# Altium footprint library PowerMOSFET.PcbLib: 5 footprints
Each footprint in its own frame and in the unit in brackets; x right, y up, seen from the top. Pads: shape width x height; smd on the part's side, far side on the other; paste and mask are expansions set on the pad; w line width, h text height; cw(c..) or ccw(c..) is an arc to the next point about the centre after c.
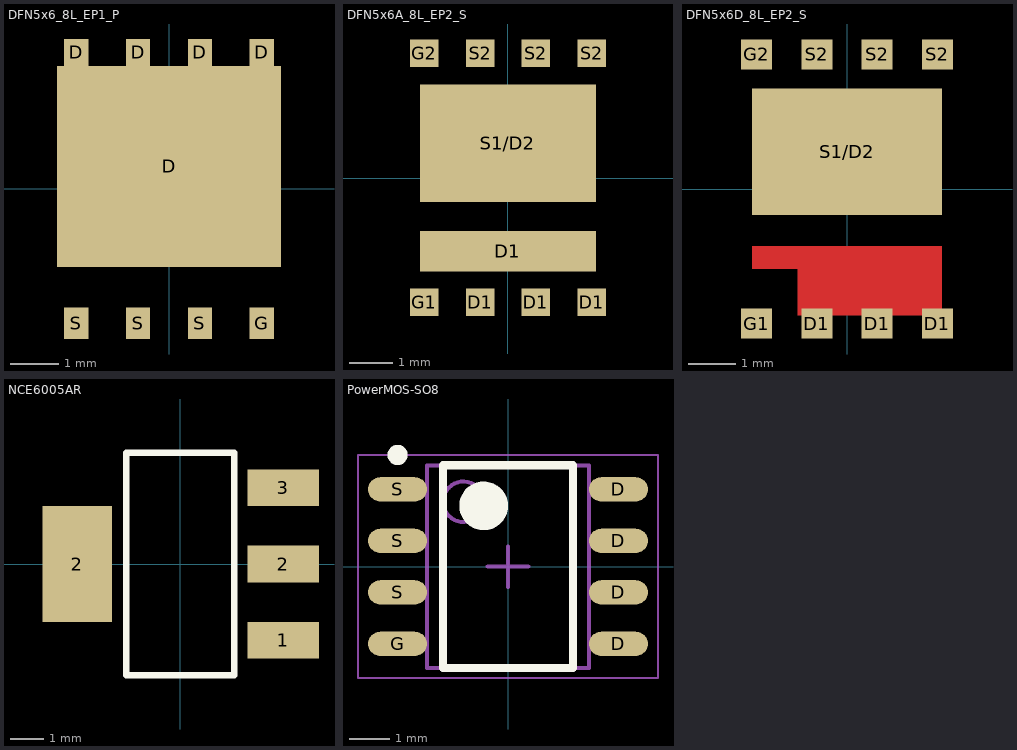
[diagram p0: the footprints below, top view; thin cyan lines are the x and y axes]

## DFN5x6_8L_EP1_P [mm]
height 0.024
pads (9):
  rect 0.5x0.55 smd: D(-1.905,2.795) D(-0.635,2.795) D(0.635,2.795) D(1.905,2.795)
  rect 4.6x4.12 smd: D(0,0.46)
  rect 0.5x0.65 smd: G(1.905,-2.755) S(-1.905,-2.755) S(-0.635,-2.755) S(0.635,-2.755)
3D body: height 0.95, standoff 0, extent -2.6,-2.775 2.6,2.775

## DFN5x6A_8L_EP2_S [mm]
height 0.75
pads (10):
  rect 0.65x0.63 smd: D1(-0.635,-2.825) D1(0.635,-2.825) D1(1.905,-2.825) G1(-1.905,-2.825) G2(-1.905,2.845) S2(-0.635,2.845) S2(0.635,2.845) S2(1.905,2.845)
  rect 4x0.92 smd: D1(0,-1.66)
  rect 4x2.67 smd: S1/D2(0,0.795)
3D body: height 0.75, standoff 0, extent -2.5,-3 2.5,3

## DFN5x6D_8L_EP2_S [mm]
height 0.75
pads (9):
  rect 0.65x0.63 smd: D1(-0.635,-2.825) D1(0.635,-2.825) D1(1.905,-2.825) G1(-1.905,-2.825) G2(-1.905,2.845) S2(-0.635,2.845) S2(0.635,2.845) S2(1.905,2.845)
  rect 4x2.67 smd: S1/D2(0,0.795)
Top Layer:
  region: -2,-1.2 -2,-1.67 -1.04,-1.67 -1.04,-2.65 2,-2.65 2,-1.2
3D body: height 0.75, standoff 0, extent -2.5,-3 2.5,3

## NCE6005AR [mm] "SOT-223/SC-73; 4 Leads; Body 6.7 x 7.3 mm, inc. leads (LxW max)"
height 1.78
pads (4):
  rect 2.15x1.1 smd: 1(3.1,-2.3) 2(3.1,0) 3(3.1,2.3)
  rect 2.1x3.5 smd: 2(-3.1,0)
Top Overlay:
  lines w0.2: -1.625,-3.35 1.625,-3.35 1.625,3.35 -1.625,3.35 -1.625,-3.35
3D body "SOT-223_MP04A.STEP": height 1.7, standoff 0, extent -3.48,-3.25 3.48,3.25

## PowerMOS-SO8 [mm] "SOP, 8-Leads, Body 4.90x3.90mm, Pitch 1.27mm, IPC Medium Density"
height 1.75
pads (8):
  oval 1.45x0.6 smd: D(2.725,-1.905) D(2.725,-0.635) D(2.725,0.635) D(2.725,1.905) G(-2.725,-1.905) S(-2.725,-0.635) S(-2.725,0.635) S(-2.725,1.905)
Top Overlay:
  circle w0.6: c-0.6,1.5 r0.3
  circle w0.25: c-2.725,2.755 r0.125
  lines w0.2: -1.6,-2.5 1.6,-2.5 1.6,2.5 -1.6,2.5 -1.6,-2.5
Mechanical 13:
  circle w0.1: c-1.1,1.6 r0.5
  lines w0.1: -2,-2.5 2,-2.5 2,2.5 -2,2.5 -2,-2.5
Mechanical 15:
  lines w0.05: -3.7,-2.75 3.7,-2.75 3.7,2.75 -3.7,2.75 -3.7,-2.75
  lines w0.1: -0.5,0 0.5,0 ; 0,-0.5 0,0.5
3D body "PowerMOS-SO8.step": height 1.75, standoff 0, extent -3,-2.5 3,2.5